# Altium footprint library GameManFootPrints.PcbLib: 49 footprints (part 3 of 4)
Each footprint in its own frame and in the unit in brackets; x right, y up, seen from the top. Pads: shape width x height; smd on the part's side, far side on the other; paste and mask are expansions set on the pad; w line width, h text height; cw(c..) or ccw(c..) is an arc to the next point about the centre after c.
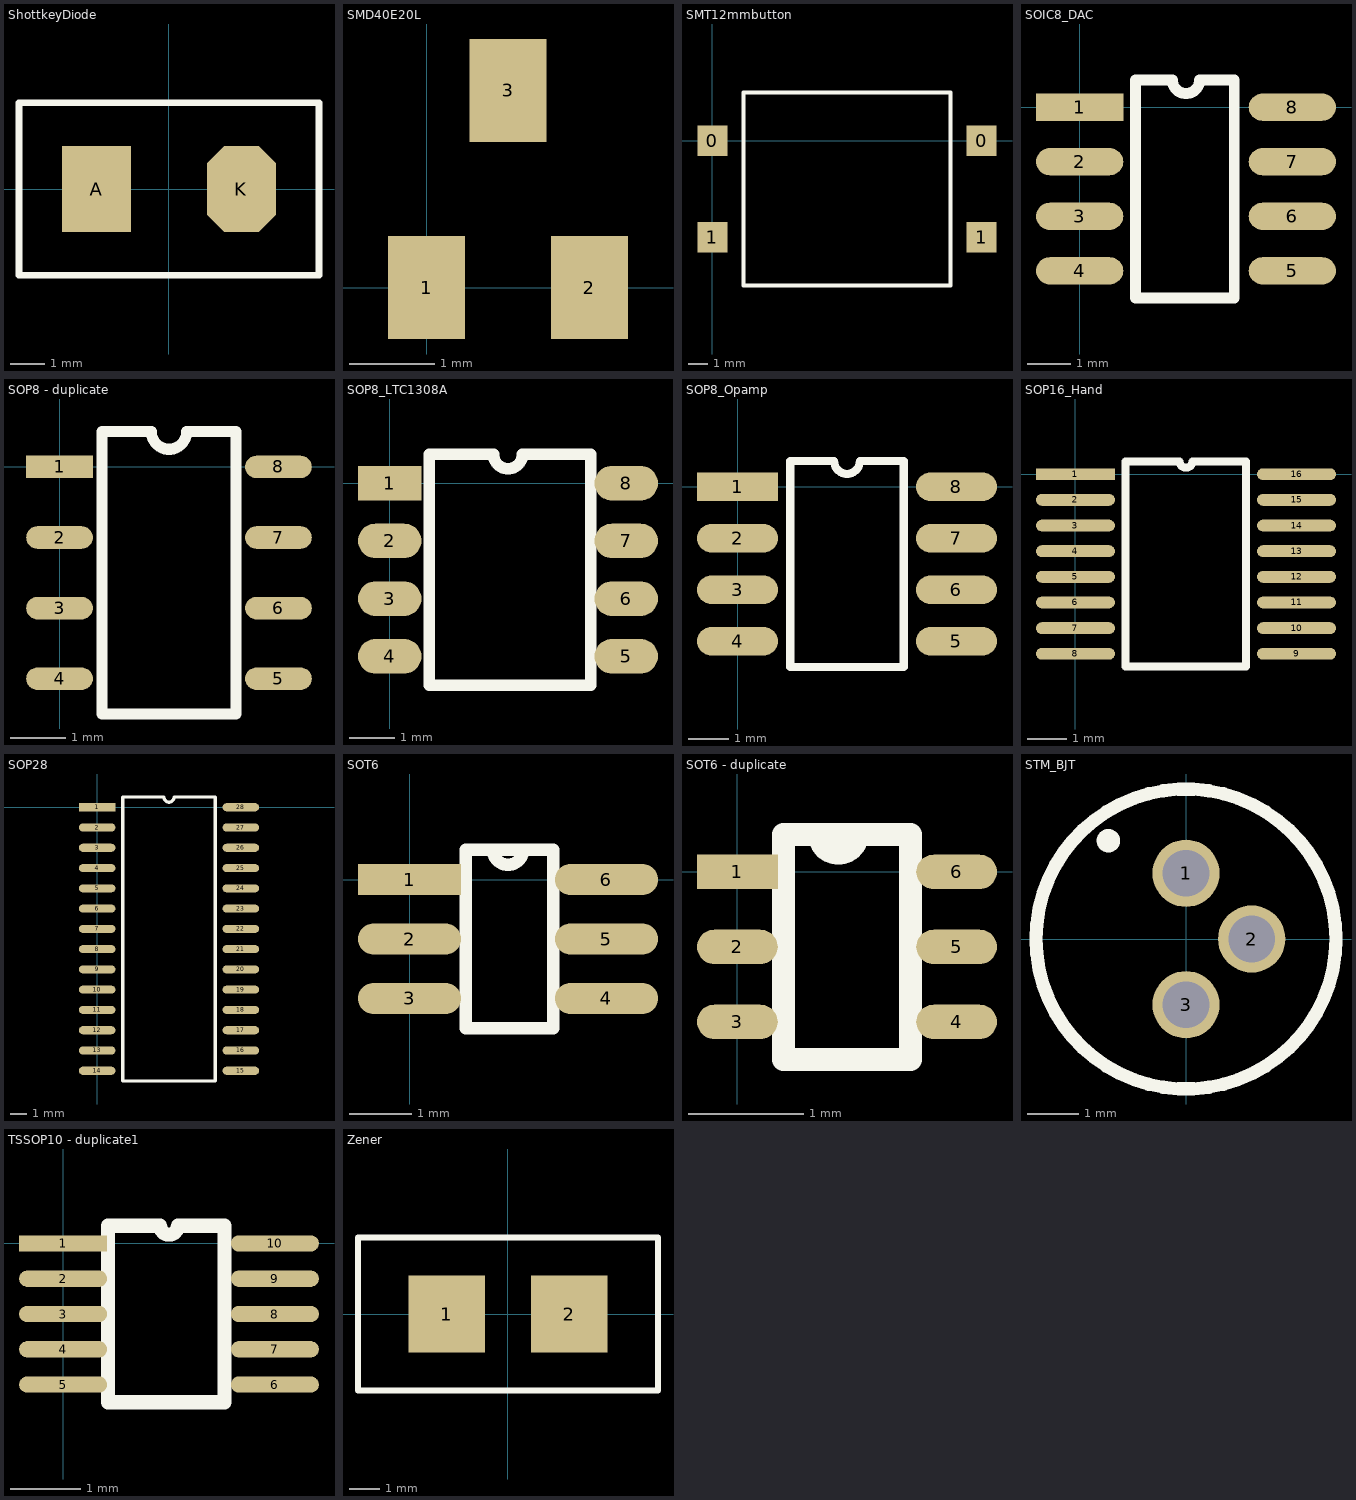
[diagram p2: the footprints below, top view; thin cyan lines are the x and y axes]

## ShottkeyDiode [mm]
pads (2):
  rect 2x2.5 smd: A(-2.1,0)
  oct 2x2.5 smd: K(2.1,0)
Top Overlay:
  lines w0.2: -4.35,-2.5 -4.35,0 -4.35,2.5 4.35,2.5 4.35,-2.5 -4.35,-2.5

## SMD40E20L [mm]
pads (3):
  rect 0.9x1.2 smd: 1(0,0) 2(1.9,0) 3(0.95,2.3)

## SMT12mmbutton [mm]
pads (4):
  rect 1.55x1.6 smd: 0(0,0) 0(13.95,0) 1(0,-5) 1(13.95,-5)
Top Overlay:
  lines w0.2: 1.61,-7.5 12.34,-7.5 12.34,2.5 8.225,2.5 5.725,2.5 1.61,2.5 1.61,-7.5

## SOIC8_DAC [mil]
pads (8):
  rect 80x25 smd: 1(0,0)
  oval 80x25 smd: 2(0,-50) 3(0,-100) 4(0,-150) 5(195,-150) 6(195,-100) 7(195,-50) 8(195,0)
Top Overlay:
  lines w10: 51.18,-175 141.73,-175 141.73,25 110,25 cw(c97.5,25) 85,25 51.18,25 51.18,-175

## SOP8 [mm]

## SOP8 - duplicate [mm]
pads (8):
  rect 1.2x0.406 smd: 1(0,0)
  oval 1.2x0.406 smd: 2(0,-1.27) 3(0,-2.54) 4(0,-3.81) 5(3.94,-3.81) 6(3.94,-2.54) 7(3.94,-1.27) 8(3.94,0)
Top Overlay:
  lines w0.2: 0.762,-4.445 0.762,0.635 1.652,0.635 ccw(c1.97,0.635) 2.287,0.635 3.175,0.635 3.175,-4.445 0.762,-4.445

## SOP8_LTC1308A [mil]
pads (8):
  rect 55x30 smd: 1(0,0)
  oval 55x30 smd: 2(0,-50) 3(0,-100) 4(0,-150) 5(205,-150) 6(205,-100) 7(205,-50) 8(205,0)
Top Overlay:
  lines w10: 34.45,-175 174.21,-175 174.21,25 115,25 cw(c102.5,25) 90,25 34.45,25 34.45,-175

## SOP8_Opamp [mm]
pads (8):
  rect 2x0.7 smd: 1(0,0)
  oval 2x0.7 smd: 2(0,-1.27) 3(0,-2.54) 4(0,-3.81) 5(5.4,-3.81) 6(5.4,-2.54) 7(5.4,-1.27) 8(5.4,0)
Top Overlay:
  lines w0.2: 1.3,-4.445 1.3,0.635 2.382,0.635 ccw(c2.7,0.635) 3.017,0.635 4.1,0.635 4.1,-4.445 1.3,-4.445

## SOP16_Hand [mm]
pads (16):
  rect 2x0.3 smd: 1(0,0)
  oval 2x0.3 smd: 2(0,-0.65) 3(0,-1.3) 4(0,-1.95) 5(0,-2.6) 6(0,-3.25) 7(0,-3.9) 8(0,-4.55) 9(5.6,-4.55) 10(5.6,-3.9) 11(5.6,-3.25) 12(5.6,-2.6) 13(5.6,-1.95) 14(5.6,-1.3) 15(5.6,-0.65) 16(5.6,0)
Top Overlay:
  lines w0.2: 1.27,-4.875 4.318,-4.875 4.318,0.325 2.962,0.325 cw(c2.8,0.325) 2.638,0.325 1.27,0.325 1.27,-4.875

## SOP28 [mil]
pads (28):
  rect 90x20 smd: 1(0,0)
  oval 90x20 smd: 2(0,-50) 3(0,-100) 4(0,-150) 5(0,-200) 6(0,-250) 7(0,-300) 8(0,-350) 9(0,-400) 10(0,-450) 11(0,-500) 12(0,-550) 13(0,-600) 14(0,-650) 15(354.33,-650) 16(354.33,-600) 17(354.33,-550) 18(354.33,-500) 19(354.33,-450) 20(354.33,-400) 21(354.33,-350) 22(354.33,-300) 23(354.33,-250) 24(354.33,-200) 25(354.33,-150) 26(354.33,-100) 27(354.33,-50) 28(354.33,0)
Top Overlay:
  lines w7.87: 62.99,-675 62.99,25 164.67,25 ccw(c177.17,25) 189.67,25 291.34,25 291.34,-675 62.99,-675

## SOT6 [mm]
pads (6):
  rect 1.65x0.5 smd: 1(0,0)
  oval 1.65x0.5 smd: 2(0,-0.95) 3(0,-1.9) 4(3.15,-1.9) 5(3.15,-0.95) 6(3.15,0)
Top Overlay:
  lines w0.2: 0.9,-2.375 0.9,0.475 1.812,0.475 cw(c1.575,0.475) 1.337,0.475 2.3,0.475 2.3,-2.375 0.9,-2.375

## SOT6 - duplicate [mm]
pads (6):
  rect 0.7x0.3 smd: 1(0,0)
  oval 0.7x0.3 smd: 2(0,-0.65) 3(0,-1.3) 4(1.9,-1.3) 5(1.9,-0.65) 6(1.9,0)
Top Overlay:
  lines w0.2: 0.4,-1.625 1.5,-1.625 1.5,0.325 0.713,0.325 ccw(c0.875,0.325) 1.037,0.325 0.4,0.325 0.4,-1.625

## STM_BJT [mm]
pads (3):
  round 1.3 hole 0.9: 1(0,1.27) 2(1.27,0) 3(0,-1.27)
Top Overlay:
  circle w0.254: c-1.5,1.9 r0.1
  circle w0.254: c0,0 r2.9

## TSSOP10 [mm]

## TSSOP10 - duplicate1 [mm]
pads (10):
  rect 1.25x0.23 smd: 1(0,0)
  oval 1.25x0.23 smd: 2(0,-0.5) 3(0,-1) 4(0,-1.5) 5(0,-2) 6(3,-2) 7(3,-1.5) 8(3,-1) 9(3,-0.5) 10(3,0)
Top Overlay:
  lines w0.2: 0.635,-2.25 0.635,0.25 1.375,0.25 ccw(c1.5,0.25) 1.625,0.25 2.286,0.25 2.286,-2.25 0.635,-2.25

## Zener [mm]
pads (2):
  rect 2.5x2.5 smd: 1(-2,0) 2(2,0)
Top Overlay:
  lines w0.2: -4.9,-2.5 4.9,-2.5 4.9,2.5 -4.9,2.5 -4.9,0 -4.9,-2.5